# EAGLE library part LM358DR2G (library LM358DR2G)
LM358DR2G, Dual Operational Amplifier 5 to 28V, 8-Pin SOIC Source: Datasheet <http://www.onsemi.com/pub/Collateral/LM358-D.PDF>
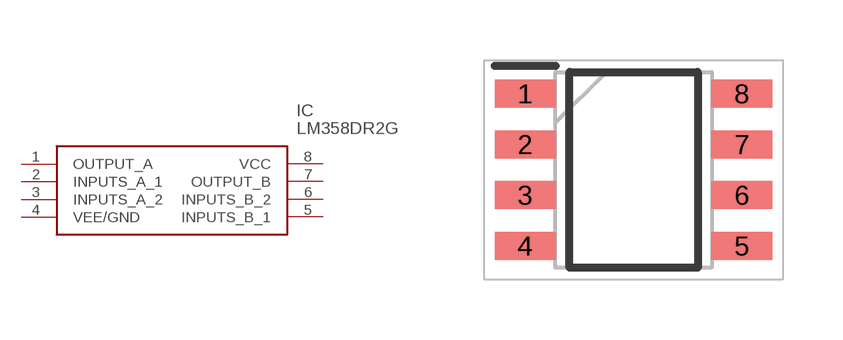
[diagram p0: symbol with the pads of SOIC127P600X175-8N; footprint SOIC127P600X175-8N]

Designator prefix IC

## LM358DR2G (Arrow_Part_Number: LM358DR2G; Arrow_Price-Stock: null?region=asia; Description: LM358DR2G, Dual Operational Amplifier 5 to 28V, 8-Pin SOIC; Height: 1.75mm; Manufacturer_Name: onsemi; Manufacturer_Part_Number: LM358DR2G; Mouser_Part_Number: 863-LM358DR2G; Mouser_Price-Stock: https://www.mouser.co.uk/ProductDetail/onsemi/LM358DR2G?qs=2OtswVQKCOFTvDtJvQ3XHw%3D%3D)  [SOIC127P600X175-8N]
1  OUTPUT_A
2  INPUTS_A_1
3  INPUTS_A_2
4  VEE/GND
5  INPUTS_B_1
6  INPUTS_B_2
7  OUTPUT_B
8  VCC

## Footprint SOIC127P600X175-8N (pad centres in mm)
SOIC 8, 150 mils
smd 1.525 x 0.7: 1 -2.712,1.905; 2 -2.712,0.635; 3 -2.712,-0.635; 4 -2.712,-1.905; 5 2.712,-1.905; 6 2.712,-0.635; 7 2.712,0.635; 8 2.712,1.905